# Altium schematic symbol library PIC32MX174F256D-IPT.SchLib: 1 symbol
Pins are listed as number, name and electrical type; pins without a type are passive.

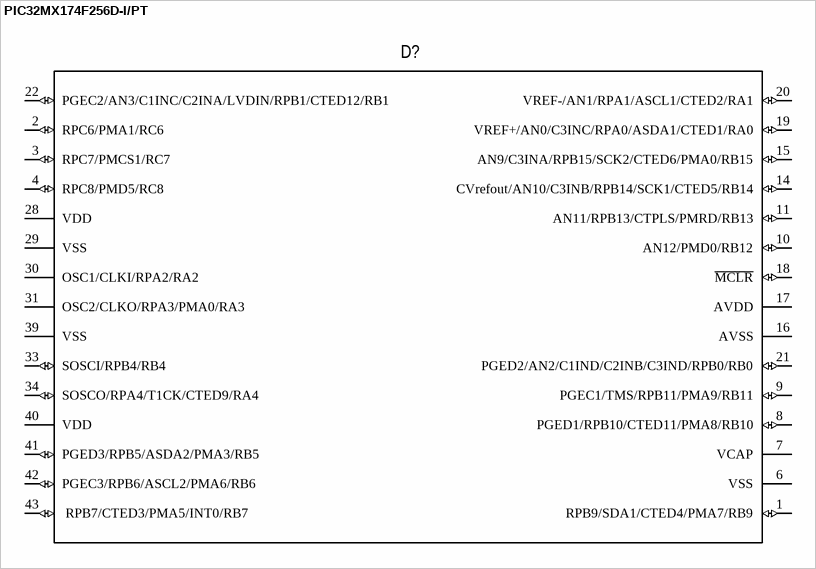
[diagram p0: symbol PIC32MX174F256D-I/PT]

## PIC32MX174F256D-I/PT
designator D?
pins: 1 RPB9/SDA1/CTED4/PMA7/RB9 (io), 2 RPC6/PMA1/RC6 (io), 3 RPC7/PMCS1/RC7 (io), 4 RPC8/PMD5/RC8 (io), 6 VSS (power), 7 VCAP (power), 8 PGED1/RPB10/CTED11/PMA8/RB10 (io), 9 PGEC1/TMS/RPB11/PMA9/RB11 (io), 10 AN12/PMD0/RB12 (io), 11 AN11/RPB13/CTPLS/PMRD/RB13 (io), 14 CVrefout/AN10/C3INB/RPB14/SCK1/CTED5/RB14 (io), 15 AN9/C3INA/RPB15/SCK2/CTED6/PMA0/RB15 (io), 16 AVSS (power), 17 AVDD (power), 18 ~{MCLR} (io), 19 VREF+/AN0/C3INC/RPA0/ASDA1/CTED1/RA0 (io), 20 VREF-/AN1/RPA1/ASCL1/CTED2/RA1 (io), 21 PGED2/AN2/C1IND/C2INB/C3IND/RPB0/RB0 (io), 22 PGEC2/AN3/C1INC/C2INA/LVDIN/RPB1/CTED12/RB1 (io), 28 VDD (power), 29 VSS (power), 30 OSC1/CLKI/RPA2/RA2, 31 OSC2/CLKO/RPA3/PMA0/RA3, 33 SOSCI/RPB4/RB4 (io), 34 SOSCO/RPA4/T1CK/CTED9/RA4 (io), 39 VSS (power), 40 VDD (power), 41 PGED3/RPB5/ASDA2/PMA3/RB5 (io), 42 PGEC3/RPB6/ASCL2/PMA6/RB6 (io), 43  RPB7/CTED3/PMA5/INT0/RB7 (io)